# Altium schematic symbol library 524651071.SchLib: 2 symbols
Pins are listed as number, name and electrical type; pins without a type are passive.

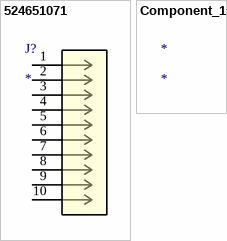
[diagram p0: symbols 524651071 to Component_1]

## 524651071
designator J?
No Description Available; Mfr_Name: Molex Connector Corporation; RefDes: RefDes; Type: Type
footprint CON_524651071
pins: 1, 2, 3, 4, 5, 6, 7, 8, 9, 10

## Component_1
designator *